# Altium footprint library 541-10148-1-ND.PcbLib: 4 footprints
Each footprint in its own frame and in the unit in brackets; x right, y up, seen from the top. Pads: shape width x height; smd on the part's side, far side on the other; paste and mask are expansions set on the pad; w line width, h text height; cw(c..) or ccw(c..) is an arc to the next point about the centre after c.
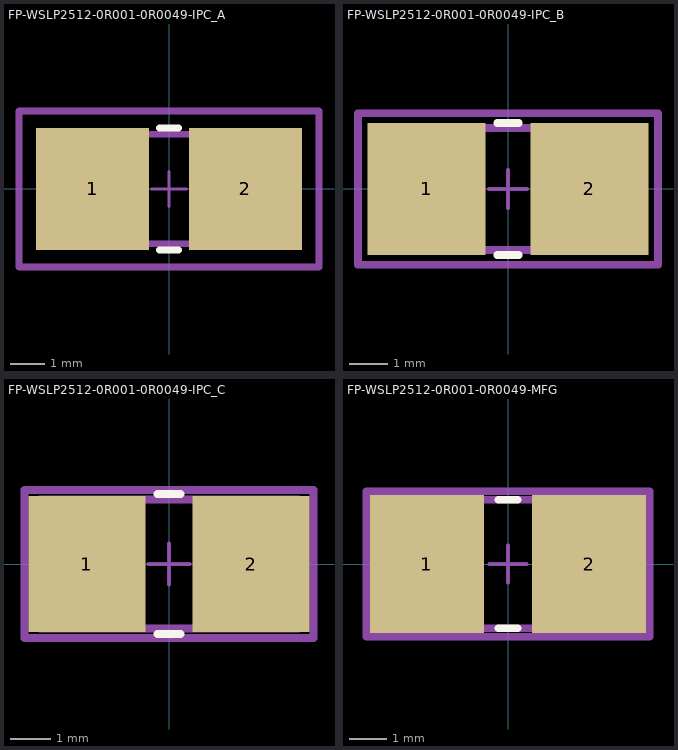
[diagram p0: the footprints below, top view; thin cyan lines are the x and y axes]

## FP-WSLP2512-0R001-0R0049-IPC_A [mm]
pads (2):
  rect 3.272x3.539 smd paste+0 mask+0: 1(-2.219,0) 2(2.219,0)
Top Overlay:
  lines w0.2: -0.283,-1.769 0.283,-1.769 ; -0.283,1.769 0.283,1.769
Top Assembly:
  lines w0.2: -4.354,-2.269 4.354,-2.269 4.354,2.269 -4.354,2.269 -4.354,-2.269
  text ".Designator" at 0,0.188 h1
Top 3D Body:
  lines w0.2: -3.175,-1.59 3.175,-1.59 3.175,1.59 -3.175,1.59 -3.175,-1.59
Top Courtyard:
  lines w0.2: -4.354,-2.269 4.354,-2.269 4.354,2.269 -4.354,2.269 -4.354,-2.269
Top Component Center:
  lines w0.1: -0.5,0 0.5,0 ; 0,-0.5 0,0.5
3D body "Res_Vishay_WSLP25122L000FEA_eec.STEP": height 0.25, standoff 0, extent -4.354,-2.269 4.354,2.269

## FP-WSLP2512-0R001-0R0049-IPC_B [mm]
pads (2):
  rect 3.072x3.439 smd paste+0 mask+0: 1(-2.119,0) 2(2.119,0)
Top Overlay:
  lines w0.2: -0.283,-1.719 0.283,-1.719 ; -0.283,1.719 0.283,1.719
Top Assembly:
  lines w0.2: -3.904,-1.969 3.904,-1.969 3.904,1.969 -3.904,1.969 -3.904,-1.969
  text ".Designator" at 0,0.188 h1
Top 3D Body:
  lines w0.2: -3.175,-1.59 3.175,-1.59 3.175,1.59 -3.175,1.59 -3.175,-1.59
Top Courtyard:
  lines w0.2: -3.904,-1.969 3.904,-1.969 3.904,1.969 -3.904,1.969 -3.904,-1.969
Top Component Center:
  lines w0.1: -0.5,0 0.5,0 ; 0,-0.5 0,0.5
3D body "Res_Vishay_WSLP25122L000FEA_eec.STEP": height 0.25, standoff 0, extent -3.904,-1.969 3.904,1.969

## FP-WSLP2512-0R001-0R0049-IPC_C [mm]
pads (2):
  rect 2.872x3.339 smd paste+0 mask+0: 1(-2.019,0) 2(2.019,0)
Top Overlay:
  lines w0.2: -0.283,-1.717 0.283,-1.717 ; -0.283,1.717 0.283,1.717
Top Assembly:
  lines w0.2: -3.554,-1.817 3.554,-1.817 3.554,1.817 -3.554,1.817 -3.554,-1.817
  text ".Designator" at 0,0.188 h1
Top 3D Body:
  lines w0.2: -3.175,-1.59 3.175,-1.59 3.175,1.59 -3.175,1.59 -3.175,-1.59
Top Courtyard:
  lines w0.2: -3.554,-1.817 3.554,-1.817 3.554,1.817 -3.554,1.817 -3.554,-1.817
Top Component Center:
  lines w0.1: -0.5,0 0.5,0 ; 0,-0.5 0,0.5
3D body "Res_Vishay_WSLP25122L000FEA_eec.STEP": height 0.25, standoff 0, extent -3.554,-1.817 3.554,1.817

## FP-WSLP2512-0R001-0R0049-MFG [mm]
pads (2):
  rect 3.05x3.68 smd paste+0 mask+0: 1(-2.16,0) 2(2.16,0)
Top Overlay:
  lines w0.2: -0.26,-1.717 0.26,-1.717 ; -0.26,1.717 0.26,1.717
Top Assembly:
  lines w0.2: -3.785,-1.94 3.785,-1.94 3.785,1.94 -3.785,1.94 -3.785,-1.94
  text ".Designator" at 0,0.188 h1
Top 3D Body:
  lines w0.2: -3.302,-1.717 3.302,-1.717 3.302,1.717 -3.302,1.717 -3.302,-1.717
Top Courtyard:
  lines w0.2: -3.785,-1.94 3.785,-1.94 3.785,1.94 -3.785,1.94 -3.785,-1.94
Top Component Center:
  lines w0.1: -0.5,0 0.5,0 ; 0,-0.5 0,0.5
3D body "Res_Vishay_WSLP25122L000FEA_eec.STEP": height 0.25, standoff 0, extent -3.785,-1.94 3.785,1.94